# Altium footprint library LT5400BHMS8E-8#TRPBF.PcbLib: 1 footprints
Each footprint in its own frame and in the unit in brackets; x right, y up, seen from the top. Pads: shape width x height; smd on the part's side, far side on the other; paste and mask are expansions set on the pad; w line width, h text height; cw(c..) or ccw(c..) is an arc to the next point about the centre after c.
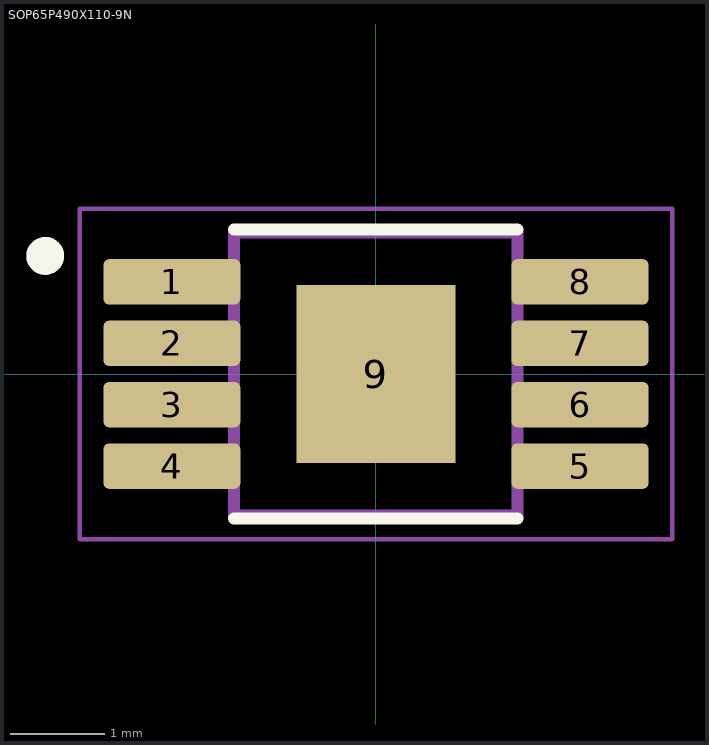
[diagram p0: the footprint, top view; thin cyan lines are the x and y axes]

## SOP65P490X110-9N [mm]
pads (9):
  rrect25% 1.45x0.48 smd: 1(-2.16,0.975) 2(-2.16,0.325) 3(-2.16,-0.325) 4(-2.16,-0.975) 5(2.16,-0.975) 6(2.16,-0.325) 7(2.16,0.325) 8(2.16,0.975)
  rect 1.68x1.88 smd paste-2: 9(0,0)
Top Overlay:
  circle w0.2: c-3.5,1.25 r0.1
  lines w0.127: -1.5,-1.529 1.5,-1.529 ; -1.5,1.529 1.5,1.529
Mechanical 13:
  circle w0.2: c-3.5,1.25 r0.1
  lines w0.127: -1.5,-1.5 -1.5,1.5 1.5,1.5 1.5,-1.5 -1.5,-1.5
Mechanical 15:
  lines w0.05: -3.135,-1.75 -3.135,1.75 3.135,1.75 3.135,-1.75 -3.135,-1.75
3D body "step_temp.STEP": height 1.1, standoff 0, extent -2.45,-1.5 2.45,1.5